# EAGLE library part TWIG_2.0-SMD-FEMALE (library Connector)
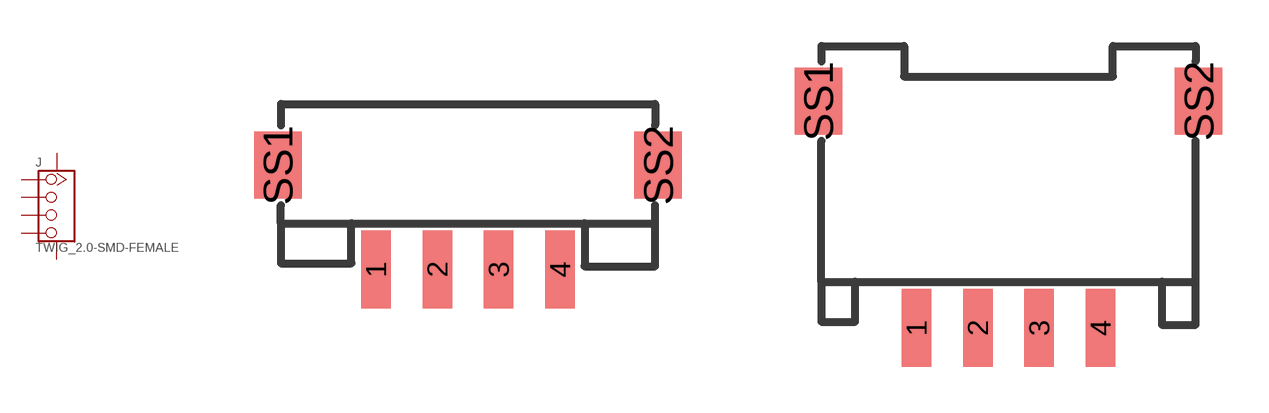
[diagram p33: symbol with the pads of 4P-SMD-2.0; footprints 4P-SMD-2.0, 4P-SMD-2.0-90]

Designator prefix J

## TWIG_2.0-SMD-FEMALE'DD'  [4P-SMD-2.0]
1  1
2  2
3  3
4  4
SS1  SS1
SS2  SS2

## TWIG_2.0-SMD-FEMALE90D  [4P-SMD-2.0-90]
Pads as for 4P-SMD-2.0

## Footprint 4P-SMD-2.0 (pad centres in mm)
smd 0.965 x 2.54: 1 -3,0; 2 -1,0; 3 1,0; 4 3,0
smd 1.55 x 2.184: SS1 -6.2,3.4; SS2 6.2,3.4

## Footprint 4P-SMD-2.0-90 (pad centres in mm)
smd 0.965 x 2.54: 1 -3,0; 2 -1,0; 3 1,0; 4 3,0
smd 1.55 x 2.184: SS1 -6.2,7.4; SS2 6.2,7.4